# Altium footprint library Module.PcbLib: 19 footprints (part 1 of 2)
Each footprint in its own frame and in the unit in brackets; x right, y up, seen from the top. Pads: shape width x height; smd on the part's side, far side on the other; paste and mask are expansions set on the pad; w line width, h text height; cw(c..) or ccw(c..) is an arc to the next point about the centre after c.
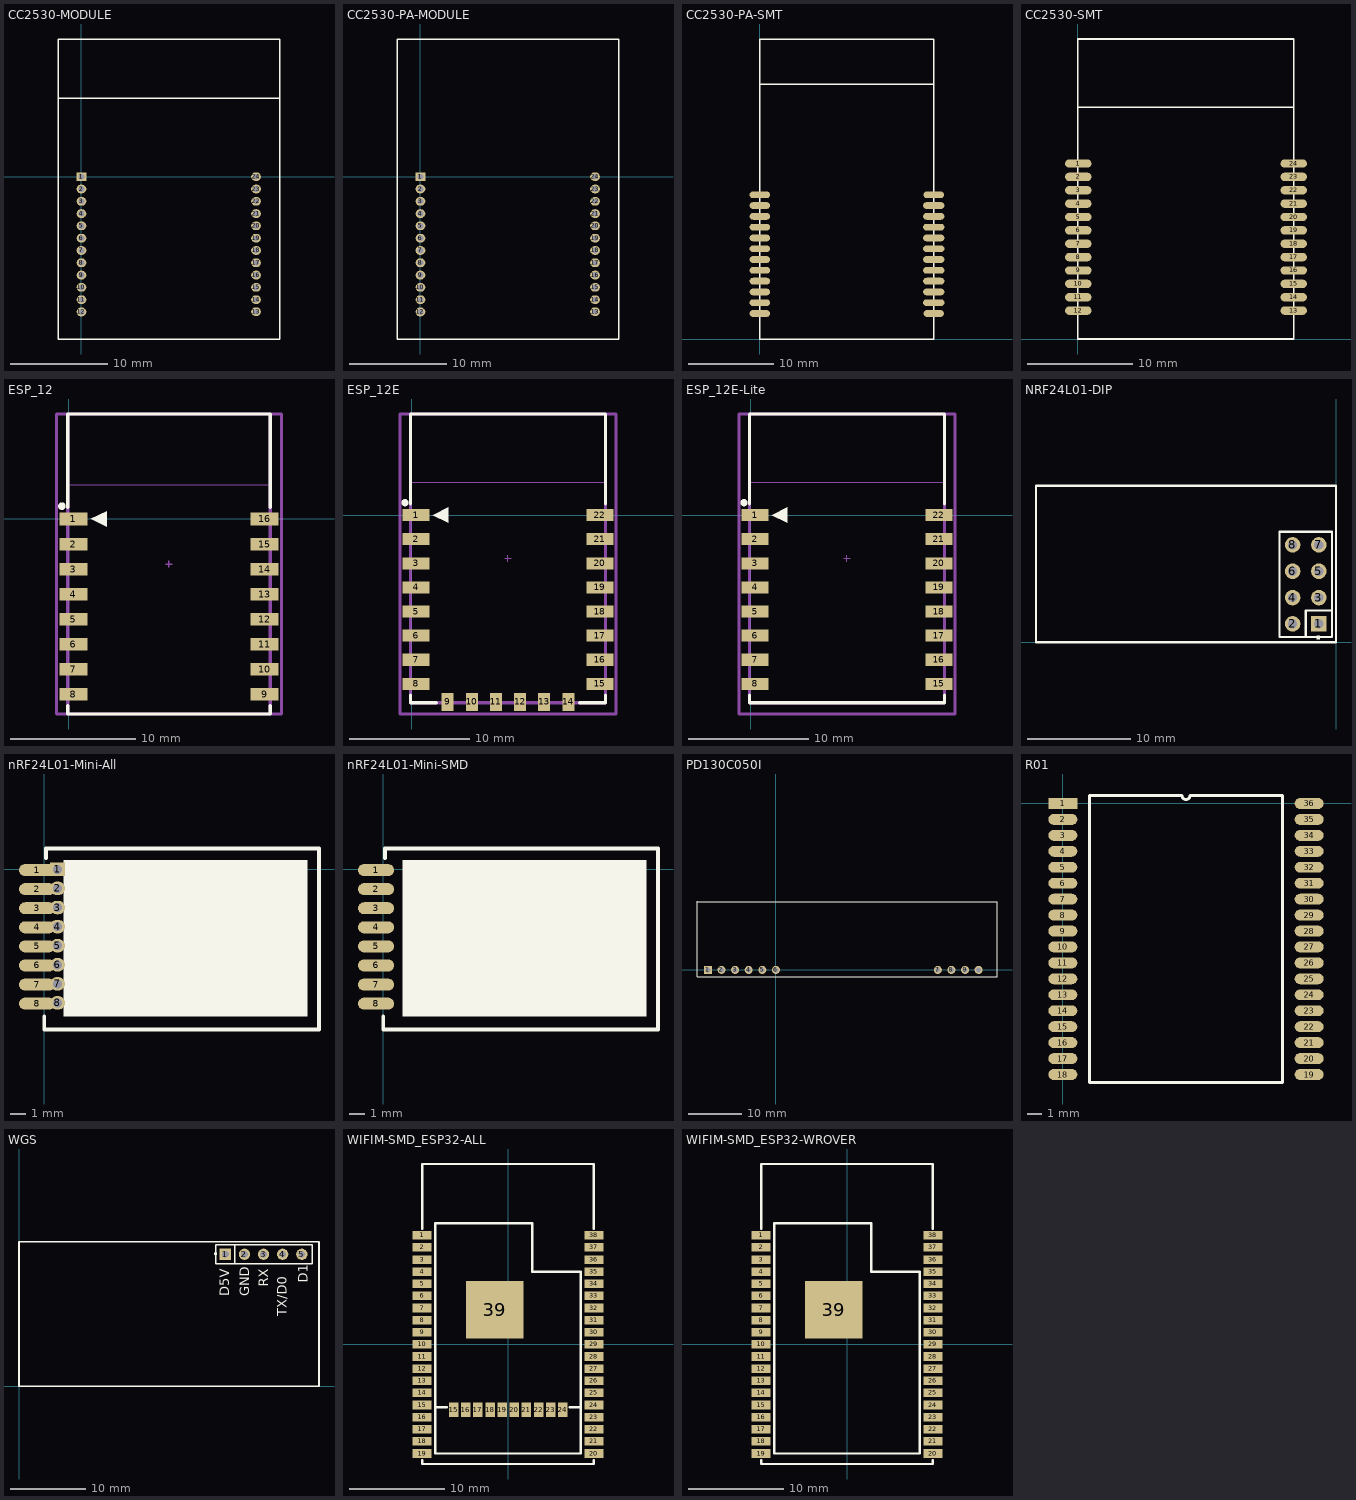
[diagram p0: the footprints below, top view; thin cyan lines are the x and y axes]

## CC2530-MODULE [mm]
pads (24):
  rect 1x0.9 hole 0.6: 1(0,0)
  oval 1x0.9 hole 0.6: 2(0,-1.27) 3(0,-2.54) 4(0,-3.81) 5(0,-5.08) 6(0,-6.35) 7(0,-7.62) 8(0,-8.89) 9(0,-10.16) 10(0,-11.43) 11(0,-12.7) 12(0,-13.97) 13(18.034,-13.945) 14(18.034,-12.7) 15(18.034,-11.43) 16(18.034,-10.16) 17(18.034,-8.89) 18(18.034,-7.62) 19(18.034,-6.35) 20(18.034,-5.08) 21(18.034,-3.81) 22(18.034,-2.54) 23(18.034,-1.27) 24(18.034,0)
Top Overlay:
  lines w0.152: -2.388,8.128 20.472,8.128 ; -2.388,-16.764 -2.388,14.224 20.472,14.224 20.472,-16.764 2.286,-16.764 -2.388,-16.764

## CC2530-PA-MODULE [mm]
pads (24):
  rect 1x0.9 hole 0.6: 1(0,0)
  oval 1x0.9 hole 0.6: 2(0,-1.27) 3(0,-2.54) 4(0,-3.81) 5(0,-5.08) 6(0,-6.35) 7(0,-7.62) 8(0,-8.89) 9(0,-10.16) 10(0,-11.43) 11(0,-12.7) 12(0,-13.97) 13(18.034,-13.945) 14(18.034,-12.7) 15(18.034,-11.43) 16(18.034,-10.16) 17(18.034,-8.89) 18(18.034,-7.62) 19(18.034,-6.35) 20(18.034,-5.08) 21(18.034,-3.81) 22(18.034,-2.54) 23(18.034,-1.27) 24(18.034,0)
Top Overlay:
  lines w0.152: -2.388,-16.764 2.286,-16.764 20.472,-16.764 20.472,14.224 -2.388,14.224 -2.388,-16.764

## CC2530-PA-SMT [mm]
pads (24):
  oval 2.4x0.8 smd: 1(0.031,16.97) 2(0.031,15.7) 3(0.031,14.43) 4(0.031,13.16) 5(0.031,11.89) 6(0.031,10.62) 7(0.031,9.35) 8(0.031,8.08) 9(0.031,6.81) 10(0.031,5.54) 11(0.031,4.27) 12(0.031,3) 13(20.5,3) 24(20.5,16.97)
  oval 2.5x0.8 smd: 14(20.5,4.27) 15(20.5,5.54) 16(20.5,6.81) 17(20.5,8.08) 18(20.5,9.35) 19(20.5,10.62) 20(20.5,11.89) 21(20.5,13.16) 22(20.5,14.43) 23(20.5,15.7)
Top Overlay:
  lines w0.152: 0,30 2.261,30 20.5,30 ; 20.5,0 20.5,35.3 0,35.3 0,0 20.51,0

## CC2530-SMT [mm]
pads (24):
  oval 2.5x0.8 smd: 1(0.031,16.67) 2(0.031,15.4) 3(0.031,14.13) 4(0.031,12.86) 5(0.031,11.59) 6(0.031,10.32) 7(0.031,9.05) 8(0.031,7.78) 9(0.031,6.51) 10(0.031,5.24) 11(0.031,3.97) 12(0.031,2.7) 13(20.5,2.7) 14(20.5,3.97) 15(20.5,5.24) 16(20.5,6.51) 17(20.5,7.78) 18(20.5,9.05) 19(20.5,10.32) 20(20.5,11.59) 21(20.5,12.86) 22(20.5,14.13) 23(20.5,15.4) 24(20.5,16.67)
Top Overlay:
  lines w0.152: 0,22 2.515,22 20.5,22 ; 0,0 0,28.5 20.5,28.5 20.5,0 0,0

## ESP-07 [mm]

## ESP_12 [mm] "ESP-12 Wi-Fi Module by AI-Thinker"
height 3.2
pads (16):
  rect 2.25x1 smd: 1(0.375,0) 2(0.375,-2) 3(0.375,-4) 4(0.375,-6) 5(0.375,-8) 6(0.375,-10) 7(0.375,-12) 8(0.375,-14) 9(15.625,-14) 10(15.625,-12) 11(15.625,-10) 12(15.625,-8) 13(15.625,-6) 14(15.625,-4) 15(15.625,-2) 16(15.625,0)
Top Overlay:
  circle w0.3: c-0.55,1.025 r0.15
  region: 1.77,0 3.04,-0.635 3.04,0.635
  lines w0.254: -0.084,-14.916 -0.084,-15.568 16.084,-15.568 16.084,-14.916 ; -0.084,0.916 -0.084,8.371 16.084,8.371 16.084,0.916
Mechanical 13:
  lines w0.051: -0.127,2.727 -0.127,8.382 16.129,8.382 16.129,2.727 -0.127,2.727
  lines w0.254: -0.084,-15.568 16.084,-15.568 16.084,8.371 -0.084,8.371 -0.084,-15.568
  text "CUTOUT POLYGON" at 0.127,7.366 h0.25
  text "ANTENNA AREA" at 0.127,7.874 h0.25
Mechanical 15:
  lines w0.1: 7.746,-3.598 8.254,-3.598 ; 8,-3.852 8,-3.344
  lines w0.254: -0.975,-15.568 -0.975,8.371 16.975,8.371 16.975,-15.568 -0.975,-15.568
3D body: height 2.75, standoff 0.04, extent 0.001,-15.491 16.001,8.509

## ESP_12E [mm] "ESP-12 Wi-Fi Module by AI-Thinker"
height 3.2
pads (22):
  rect 2.25x1 smd: 1(0.375,0) 2(0.375,-2) 3(0.375,-4) 4(0.375,-6) 5(0.375,-8) 6(0.375,-10) 7(0.375,-12) 8(0.375,-14) 15(15.625,-14) 16(15.625,-12) 17(15.625,-10) 18(15.625,-8) 19(15.625,-6) 20(15.625,-4) 21(15.625,-2) 22(15.625,0)
  rect 1x1.5 smd: 9(3,-15.5) 10(5,-15.5) 11(7,-15.5) 12(9,-15.5) 13(11,-15.5) 14(13,-15.5)
Top Overlay:
  circle w0.3: c-0.55,1.025 r0.15
  region: 1.77,0 3.04,-0.635 3.04,0.635
  lines w0.254: -0.084,-14.916 -0.084,-15.568 2.068,-15.568 ; -0.084,0.916 -0.084,8.371 16.084,8.371 16.084,0.916 ; 13.932,-15.568 16.084,-15.568 16.084,-14.916
Mechanical 13:
  lines w0.051: -0.127,2.727 -0.127,8.382 16.129,8.382 16.129,2.727 -0.127,2.727
  lines w0.254: -0.084,-15.568 16.084,-15.568 16.084,8.371 -0.084,8.371 -0.084,-15.568
  text "CUTOUT POLYGON" at 0.127,7.366 h0.25
  text "ANTENNA AREA" at 0.127,7.874 h0.25
Mechanical 15:
  lines w0.1: 7.746,-3.598 8.254,-3.598 ; 8,-3.852 8,-3.344
  lines w0.254: -0.975,-16.5 -0.975,8.371 16.975,8.371 16.975,-16.5 -0.975,-16.5
3D body: height 2.75, standoff 0.04, extent 0.001,-15.491 16.001,8.509

## ESP_12E-Lite [mm] "ESP-12 Wi-Fi Module by AI-Thinker"
height 3.2
pads (16):
  rect 2.25x1 smd: 1(0.375,0) 2(0.375,-2) 3(0.375,-4) 4(0.375,-6) 5(0.375,-8) 6(0.375,-10) 7(0.375,-12) 8(0.375,-14) 15(15.625,-14) 16(15.625,-12) 17(15.625,-10) 18(15.625,-8) 19(15.625,-6) 20(15.625,-4) 21(15.625,-2) 22(15.625,0)
Top Overlay:
  circle w0.3: c-0.55,1.025 r0.15
  region: 1.77,0 3.04,-0.635 3.04,0.635
  lines w0.254: -0.084,-14.916 -0.084,-15.568 14.224,-15.568 ; -0.084,0.916 -0.084,8.371 16.084,8.371 16.084,0.916 ; 13.932,-15.568 16.084,-15.568 16.084,-14.916
Mechanical 13:
  lines w0.051: -0.127,2.727 -0.127,8.382 16.129,8.382 16.129,2.727 -0.127,2.727
  lines w0.254: -0.084,-15.568 16.084,-15.568 16.084,8.371 -0.084,8.371 -0.084,-15.568
  text "CUTOUT POLYGON" at 0.127,7.366 h0.25
  text "ANTENNA AREA" at 0.127,7.874 h0.25
Mechanical 15:
  lines w0.1: 7.746,-3.598 8.254,-3.598 ; 8,-3.852 8,-3.344
  lines w0.254: -0.975,-16.5 -0.975,8.371 16.975,8.371 16.975,-16.5 -0.975,-16.5
3D body: height 2.75, standoff 0.04, extent 0.001,-15.491 16.001,8.509

## NRF24L01-DIP [mm] "Connector; Header; 4x2 Position"
pads (8):
  rect 1.5x1.5 hole 0.9: 1(-1.651,1.778)
  round 1.5 hole 0.9: 2(-4.191,1.778) 3(-1.651,4.318) 4(-4.191,4.318) 5(-1.651,6.858) 6(-4.191,6.858) 7(-1.651,9.398) 8(-4.191,9.398)
Top Overlay:
  region: -1.524,0.254 -1.524,0.635 -1.905,0.635 -1.905,0.254
  lines w0.2: -2.921,0.508 -2.921,3.048 -0.381,3.048 ; -5.461,0.508 -5.461,10.668 -0.381,10.668 -0.381,0.508 -5.461,0.508
  lines w0.203: -28.956,0 0,0 0,15.113 -28.956,15.113 -28.956,0

## nRF24L01-Mini-All [mm]
pads (16):
  oval 2.4x0.8 smd: 1(-0.477,-0.048) 2(-0.477,-1.318) 3(-0.477,-2.588) 4(-0.477,-3.858) 5(-0.477,-5.128) 6(-0.477,-6.398) 7(-0.477,-7.668) 8(-0.477,-8.938)
  rect 1x0.9 hole 0.6: 1(0.889,0)
  oval 1x0.9 hole 0.6: 2(0.889,-1.27) 3(0.889,-2.54) 4(0.889,-3.81) 5(0.889,-5.08) 6(0.889,-6.35) 7(0.889,-7.62) 8(0.889,-8.89)
Top Overlay:
  rectangle: 1.27,-9.779 17.526,0.635
  lines w0.254: 0,-9.779 0,-10.668 18.288,-10.668 18.288,1.397 ; 0.127,0.762 0.127,1.397 18.161,1.397

## nRF24L01-Mini-SMD [mm]
pads (8):
  oval 2.4x0.8 smd: 1(-0.477,-0.048) 2(-0.477,-1.318) 3(-0.477,-2.588) 4(-0.477,-3.858) 5(-0.477,-5.128) 6(-0.477,-6.398) 7(-0.477,-7.668) 8(-0.477,-8.938)
Top Overlay:
  rectangle: 1.27,-9.779 17.526,0.635
  lines w0.254: 0,-9.779 0,-10.668 18.288,-10.668 18.288,1.397 ; 0.127,0.762 0.127,1.397 18.161,1.397

## PD130C050I [mm]
pads (10):
  rect 1.5x1.5 hole 0.9: 1(-12.7,0)
  round 1.5 hole 0.9: 2(-10.16,0) 3(-7.62,0) 4(-5.08,0) 5(-2.54,0) 6(0,0) 7(30.226,0) 8(32.766,0) 9(35.306,0) 10(37.846,0)
Top Overlay:
  lines w0.2: -14.732,12.827 -14.732,-1.27 41.275,-1.27 41.275,12.7 -14.605,12.7

## R01 [mm]
pads (36):
  rect 2x0.75 smd: 1(0,0)
  oval 2x0.75 smd: 2(0,-1.1) 3(0,-2.2) 4(0,-3.3) 5(0,-4.4) 6(0,-5.5) 7(0,-6.6) 8(0,-7.7) 9(0,-8.8) 10(0,-9.9) 11(0,-11) 12(0,-12.1) 13(0,-13.2) 14(0,-14.3) 15(0,-15.4) 16(0,-16.5) 17(0,-17.6) 18(0,-18.7) 19(17,-18.7) 20(17,-17.6) 21(17,-16.5) 22(17,-15.4) 23(17,-14.3) 24(17,-13.2) 25(17,-12.1) 26(17,-11) 27(17,-9.9) 28(17,-8.8) 29(17,-7.7) 30(17,-6.6) 31(17,-5.5) 32(17,-4.4) 33(17,-3.3) 34(17,-2.2) 35(17,-1.1) 36(17,0)
Top Overlay:
  lines w0.2: 1.835,-19.25 15.165,-19.25 15.165,0.55 8.775,0.55 cw(c8.5,0.55) 8.225,0.55 1.835,0.55 1.835,-19.25

## WGS [mm]
pads (5):
  rect 1.5x1.5 hole 0.9: 1(27.432,17.526)
  round 1.5 hole 0.9: 2(29.972,17.526) 3(32.512,17.526) 4(35.052,17.526) 5(37.592,17.526)
Top Overlay:
  rectangle: 25.908,17.399 26.289,17.78
  lines w0.2: 28.702,16.256 28.702,18.796 ; 26.162,16.256 38.989,16.256 38.989,18.796 26.162,18.796 26.162,16.256
  lines w0.203: 0,0 0,19.177 39.878,19.177 39.878,0 0,0
  text "D1" at 38.354,13.716 h1.27
  text "TX/D0" at 35.56,9.271 h1.27
  text "RX" at 33.147,13.208 h1.27
  text "GND" at 30.607,11.938 h1.27
  text "D5V" at 27.94,11.938 h1.27

## WIFIM-SMD_ESP32-ALL [mm]
pads (49):
  rect 2x0.9 smd: 1(-9,11.43) 2(-9,10.16) 3(-9,8.89) 4(-9,7.62) 5(-9,6.35) 6(-9,5.08) 7(-9,3.81) 8(-9,2.54) 9(-9,1.27) 10(-9,0) 11(-9,-1.27) 12(-9,-2.54) 13(-9,-3.81) 14(-9,-5.08) 15(-9,-6.35) 16(-9,-7.62) 17(-9,-8.89) 18(-9,-10.16) 19(-9,-11.43) 20(9,-11.43) 21(9,-10.16) 22(9,-8.89) 23(9,-7.62) 24(9,-6.35) 25(9,-5.08) 26(9,-3.81) 27(9,-2.54) 28(9,-1.27) 29(9,0) 30(9,1.27) 31(9,2.54) 32(9,3.81) 33(9,5.08) 34(9,6.35) 35(9,7.62) 36(9,8.89) 37(9,10.16) 38(9,11.43)
  rect 1.001x1.501 smd: 15(-5.69,-6.845) 16(-4.42,-6.845) 17(-3.15,-6.845) 18(-1.88,-6.845) 19(-0.61,-6.845) 20(0.66,-6.845) 21(1.93,-6.845) 22(3.2,-6.845) 23(4.47,-6.845) 24(5.74,-6.845)
  rect 6x6 smd: 39(-1.38,3.64)
Top Overlay:
  lines w0.254: -9,-12.111 -9,-12.53 9,-12.53 9,-12.111 ; -9,12.111 -9,18.9 9,18.9 9,12.111 ; -7.62,-6.591 -6.421,-6.591 ; 6.472,-6.591 7.62,-6.591 ; -7.62,-11.43 -7.62,12.7 2.54,12.7 2.54,7.62 7.62,7.62 7.62,-11.43 -7.62,-11.43

## WIFIM-SMD_ESP32-WROVER [mm]
pads (39):
  rect 2x0.9 smd: 1(-9,11.43) 2(-9,10.16) 3(-9,8.89) 4(-9,7.62) 5(-9,6.35) 6(-9,5.08) 7(-9,3.81) 8(-9,2.54) 9(-9,1.27) 10(-9,0) 11(-9,-1.27) 12(-9,-2.54) 13(-9,-3.81) 14(-9,-5.08) 15(-9,-6.35) 16(-9,-7.62) 17(-9,-8.89) 18(-9,-10.16) 19(-9,-11.43) 20(9,-11.43) 21(9,-10.16) 22(9,-8.89) 23(9,-7.62) 24(9,-6.35) 25(9,-5.08) 26(9,-3.81) 27(9,-2.54) 28(9,-1.27) 29(9,0) 30(9,1.27) 31(9,2.54) 32(9,3.81) 33(9,5.08) 34(9,6.35) 35(9,7.62) 36(9,8.89) 37(9,10.16) 38(9,11.43)
  rect 6x6 smd: 39(-1.38,3.64)
Top Overlay:
  lines w0.254: -9,-12.111 -9,-12.53 9,-12.53 9,-12.111 ; -9,12.111 -9,18.9 9,18.9 9,12.111 ; -7.62,-11.43 -7.62,12.7 2.54,12.7 2.54,7.62 7.62,7.62 7.62,-11.43 -7.62,-11.43